# Altium schematic symbol library Recom.SchLib: 1 symbol
Pins are listed as number, name and electrical type; pins without a type are passive.

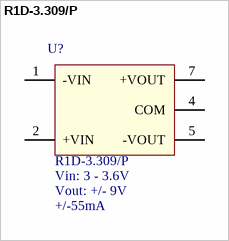
[diagram p0: symbol R1D-3.309/P]

## R1D-3.309/P
designator U?  Vout: +/- 9V  Vin: 3 - 3.6V  Part Number: R1D-3.309/P  Current: +/-55mA  (hidden comment: *)
DC DC CONVERTER +/-9V 1W; Manufacturer: Recom; Supplier 1: Digi-Key; Supplier 2: Mouser; Supplier Part Number 1: R1D-3.309/P-ND; Supplier Part Number 2: 919-R1D-3.309P
footprint RECOM-R1D (Isolated DC/DC-Converter Dual 1W)
pins: 1 -VIN, 2 +VIN, 4 COM, 5 -VOUT, 7 +VOUT